# EAGLE library part MEC5-050-01-L-RA-W1-TR (library MEC5-050-01-L-RA-W1-TR)
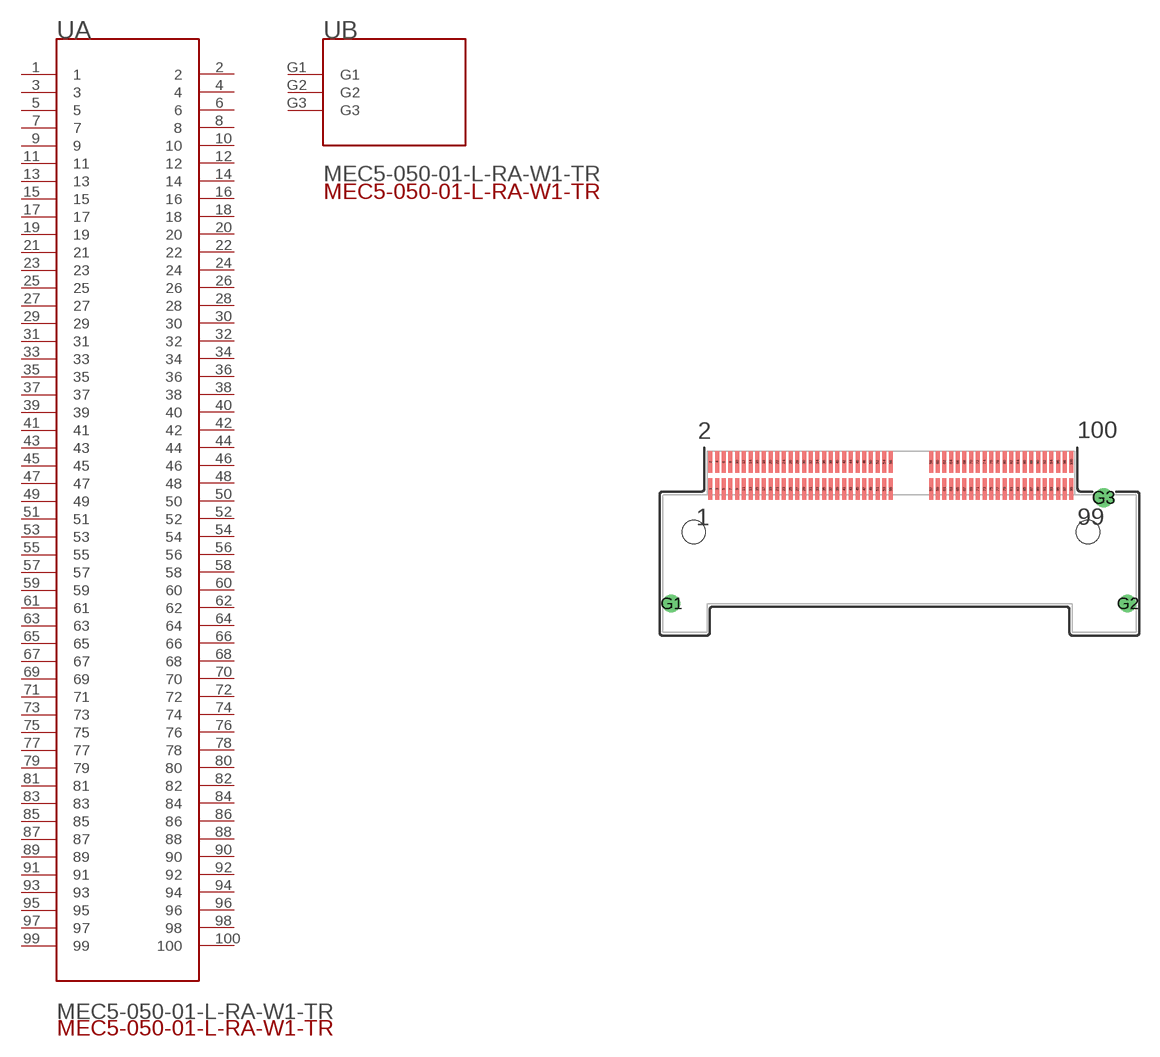
[diagram p0: symbol with the pads of MEC5-050-01-L-RA-W1-TR; footprint MEC5-050-01-L-RA-W1-TR]

Designator prefix -; gates A=MEC5-050-01-L-RA-W1-TRA B=MEC5-050-01-L-RA-W1-TRB

## MEC5-050-01-L-RA-W1-TRJ (Availability: Bad; Description: Conn, Card Edge, Rcpt, 100POS, 0.5MM; MF: Samtec; MP: MEC5-050-01-L-RA-W1-TR; Package: None; Price: 7.18 USD)  [MEC5-050-01-L-RA-W1-TR]
1  A:1  pas
2  A:2  pas
3  A:3  pas
4  A:4  pas
5  A:5  pas
6  A:6  pas
7  A:7  pas
8  A:8  pas
9  A:9  pas
10  A:10  pas
11  A:11  pas
12  A:12  pas
13  A:13  pas
14  A:14  pas
15  A:15  pas
16  A:16  pas
17  A:17  pas
18  A:18  pas
19  A:19  pas
20  A:20  pas
21  A:21  pas
22  A:22  pas
23  A:23  pas
24  A:24  pas
25  A:25  pas
26  A:26  pas
27  A:27  pas
28  A:28  pas
29  A:29  pas
30  A:30  pas
31  A:31  pas
32  A:32  pas
33  A:33  pas
34  A:34  pas
35  A:35  pas
36  A:36  pas
37  A:37  pas
38  A:38  pas
39  A:39  pas
40  A:40  pas
41  A:41  pas
42  A:42  pas
43  A:43  pas
44  A:44  pas
45  A:45  pas
46  A:46  pas
47  A:47  pas
48  A:48  pas
49  A:49  pas
50  A:50  pas
51  A:51  pas
52  A:52  pas
53  A:53  pas
54  A:54  pas
55  A:55  pas
56  A:56  pas
57  A:57  pas
58  A:58  pas
59  A:59  pas
60  A:60  pas
61  A:61  pas
62  A:62  pas
63  A:63  pas
64  A:64  pas
65  A:65  pas
66  A:66  pas
67  A:67  pas
68  A:68  pas
69  A:69  pas
70  A:70  pas
71  A:71  pas
72  A:72  pas
73  A:73  pas
74  A:74  pas
75  A:75  pas
76  A:76  pas
77  A:77  pas
78  A:78  pas
79  A:79  pas
80  A:80  pas
81  A:81  pas
82  A:82  pas
83  A:83  pas
84  A:84  pas
85  A:85  pas
86  A:86  pas
87  A:87  pas
88  A:88  pas
89  A:89  pas
90  A:90  pas
91  A:91  pas
92  A:92  pas
93  A:93  pas
94  A:94  pas
95  A:95  pas
96  A:96  pas
97  A:97  pas
98  A:98  pas
99  A:99  pas
100  A:100  pas
G1  B:G1  pwr
G2  B:G2  pwr
G3  B:G3  pwr

## Footprint MEC5-050-01-L-RA-W1-TR (pad centres in mm)
translated Allegro footprint
smd 0.3 x 1.6: 1 -13.5,-1.01; 2 -13.5,1.01; 3 -13,-1.01; 4 -13,1.01; 5 -12.5,-1.01; 6 -12.5,1.01; 7 -12,-1.01; 8 -12,1.01; 9 -11.5,-1.01; 10 -11.5,1.01; 11 -11,-1.01; 12 -11,1.01; 13 -10.5,-1.01; 14 -10.5,1.01; 15 -10,-1.01; 16 -10,1.01; 17 -9.5,-1.01; 18 -9.5,1.01; 19 -9,-1.01; 20 -9,1.01; 21 -8.5,-1.01; 22 -8.5,1.01; 23 -8,-1.01; 24 -8,1.01; 25 -7.5,-1.01; 26 -7.5,1.01; 27 -7,-1.01; 28 -7,1.01; 29 -6.5,-1.01; 30 -6.5,1.01; 31 -6,-1.01; 32 -6,1.01; 33 -5.5,-1.01; 34 -5.5,1.01; 35 -5,-1.01; 36 -5,1.01; 37 -4.5,-1.01; 38 -4.5,1.01; 39 -4,-1.01; 40 -4,1.01; 41 -3.5,-1.01; 42 -3.5,1.01; 43 -3,-1.01; 44 -3,1.01; 45 -2.5,-1.01; 46 -2.5,1.01; 47 -2,-1.01; 48 -2,1.01; 49 -1.5,-1.01; 50 -1.5,1.01; 51 -1,-1.01; 52 -1,1.01; 53 -0.5,-1.01; 54 -0.5,1.01; 55 0,-1.01; 56 0,1.01; 57 3,-1.01; 58 3,1.01; 59 3.5,-1.01; 60 3.5,1.01; 61 4,-1.01; 62 4,1.01; 63 4.5,-1.01; 64 4.5,1.01; 65 5,-1.01; 66 5,1.01; 67 5.5,-1.01; 68 5.5,1.01; 69 6,-1.01; 70 6,1.01; 71 6.5,-1.01; 72 6.5,1.01; 73 7,-1.01; 74 7,1.01; 75 7.5,-1.01; 76 7.5,1.01; 77 8,-1.01; 78 8,1.01; 79 8.5,-1.01; 80 8.5,1.01; 81 9,-1.01; 82 9,1.01; 83 9.5,-1.01; 84 9.5,1.01; 85 10,-1.01; 86 10,1.01; 87 10.5,-1.01; 88 10.5,1.01; 89 11,-1.01; 90 11,1.01; 91 11.5,-1.01; 92 11.5,1.01; 93 12,-1.01; 94 12,1.01; 95 12.5,-1.01; 96 12.5,1.01; 97 13,-1.01; 98 13,1.01; 99 13.5,-1.01; 100 13.5,1.01
drill 0.72 pad 1.32: G1 -16.43,-9.57; G2 17.7,-9.57
drill 0.83 pad 1.44: G3 15.91,-1.67
hole 1.75 at 14.75,-4.22
hole 1.75 at -14.75,-4.22